# EAGLE library part CUBE-SIDE-CONN (library umich)
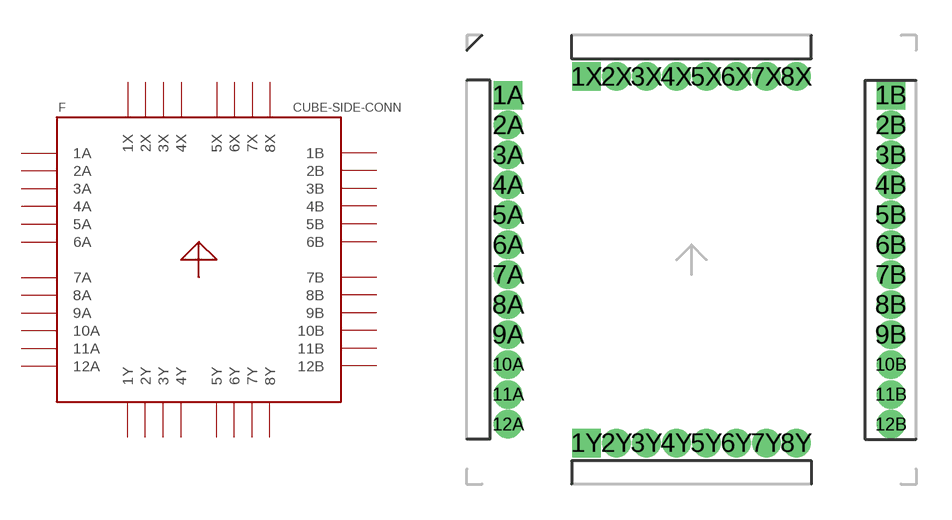
[diagram p7: symbol with the pads of CUBE-SIDE-CONN; footprint CUBE-SIDE-CONN]

Designator prefix F

## CUBE-SIDE-CONN  [CUBE-SIDE-CONN]
1A  1A
1B  1B
1X  1X
1Y  1Y
2A  2A
2B  2B
2X  2X
2Y  2Y
3A  3A
3B  3B
3X  3X
3Y  3Y
4A  4A
4B  4B
4X  4X
4Y  4Y
5A  5A
5B  5B
5X  5X
5Y  5Y
6A  6A
6B  6B
6X  6X
6Y  6Y
7A  7A
7B  7B
7X  7X
7Y  7Y
8A  8A
8B  8B
8X  8X
8Y  8Y
9A  9A
9B  9B
10A  10A
10B  10B
11A  11A
11B  11B
12A  12A
12B  12B

## Footprint CUBE-SIDE-CONN (pad centres in mm)
drill 0.7 pad 1.016 square: 1A -7.772,6.985
drill 0.7 pad 1.067 square: 1B 8.458,6.985; 1X -4.445,7.772; 1Y -4.445,-7.772
drill 0.7 pad 1.067: 2A -7.772,5.715; 2B 8.458,5.715; 2X -3.175,7.772; 2Y -3.175,-7.772; 3A -7.772,4.445; 3B 8.458,4.445; 3X -1.905,7.772; 3Y -1.905,-7.772; 4A -7.772,3.175; 4B 8.458,3.175; 4X -0.635,7.772; 4Y -0.635,-7.772; 5A -7.772,1.905; 5B 8.458,1.905; 5X 0.635,7.772; 5Y 0.635,-7.772; 6A -7.772,0.635; 6B 8.458,0.635; 6X 1.905,7.772; 6Y 1.905,-7.772; 7A -7.772,-0.635; 7B 8.458,-0.635; 7X 3.175,7.772; 7Y 3.175,-7.772; 8A -7.772,-1.905; 8B 8.458,-1.905; 8X 4.445,7.772; 8Y 4.445,-7.772; 9A -7.772,-3.175; 9B 8.458,-3.175; 10A -7.772,-4.445; 10B 8.458,-4.445; 11A -7.772,-5.715; 11B 8.458,-5.715; 12A -7.772,-6.985; 12B 8.458,-6.985